# EAGLE library part LAN91C111 (library SMSC)
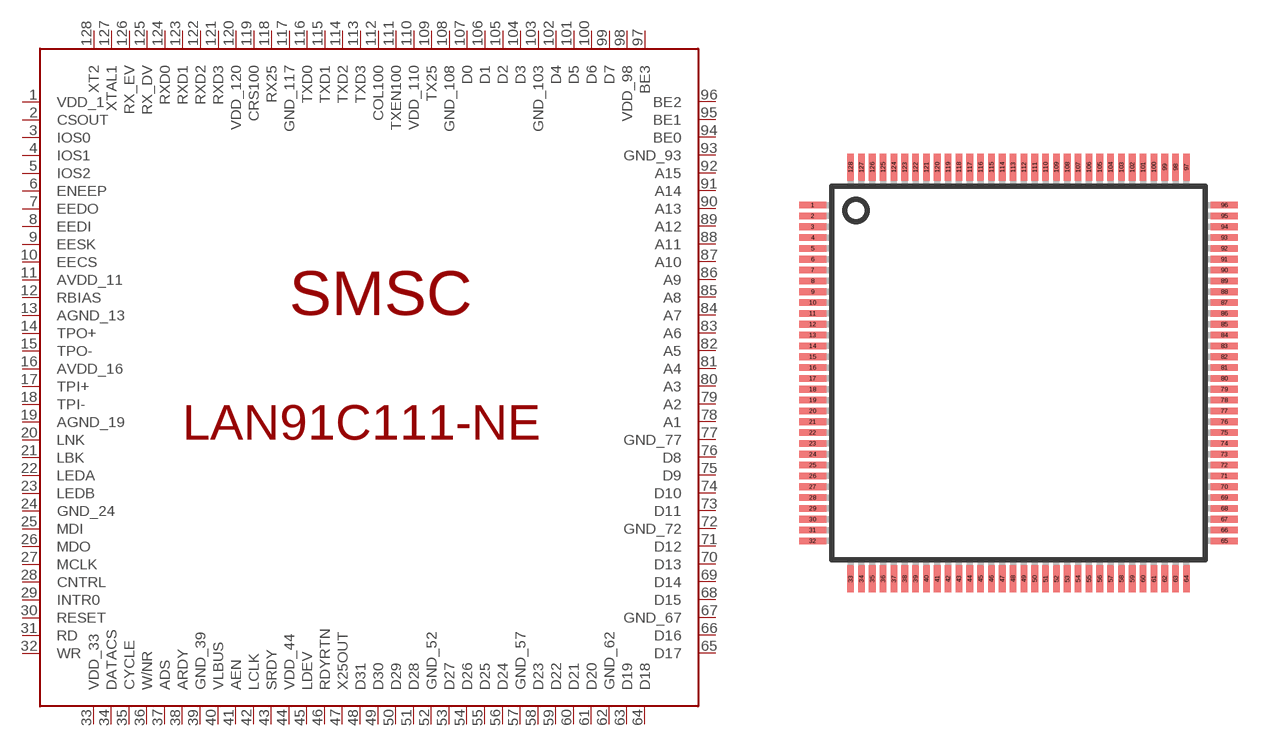
[diagram p0: symbol with the pads of TQFP128; footprint TQFP128]

Designator prefix -

## LAN91C111  [TQFP128]
1  VDD_1  pwr
2  CSOUT  out
3  IOS0  in
4  IOS1  in
5  IOS2  in
6  ENEEP  in
7  EEDO  out
8  EEDI  in
9  EESK  out
10  EECS  out
11  AVDD_11  pwr
12  RBIAS  pas
13  AGND_13  pwr
14  TPO+  pas
15  TPO-  pas
16  AVDD_16  pwr
17  TPI+  pas
18  TPI-  pas
19  AGND_19  pwr
20  LNK  in
21  LBK  out
22  LEDA  out
23  LEDB  out
24  GND_24  pwr
25  MDI  in
26  MDO  out
27  MCLK  out
28  CNTRL  in
29  INTR0  out
30  RESET  in
31  RD  in
32  WR  in
33  VDD_33  pwr
34  DATACS  in
35  CYCLE  in
36  W/NR  in
37  ADS  in
38  ARDY  out
39  GND_39  pwr
40  VLBUS  in
41  AEN  in
42  LCLK  in
43  SRDY  out
44  VDD_44  pwr
45  LDEV  out
46  RDYRTN  in
47  X25OUT  out
48  D31
49  D30
50  D29
51  D28
52  GND_52  pwr
53  D27
54  D26
55  D25
56  D24
57  GND_57  pwr
58  D23
59  D22
60  D21
61  D20
62  GND_62  pwr
63  D19
64  D18
65  D17
66  D16
67  GND_67  pwr
68  D15
69  D14
70  D13
71  D12
72  GND_72  pwr
73  D11
74  D10
75  D9
76  D8
77  GND_77  pwr
78  A1  in
79  A2  in
80  A3  in
81  A4  in
82  A5  in
83  A6  in
84  A7  in
85  A8  in
86  A9  in
87  A10  in
88  A11  in
89  A12  in
90  A13  in
91  A14  in
92  A15  in
93  GND_93  pwr
94  BE0  in
95  BE1  in
96  BE2  in
97  BE3  in
98  VDD_98  pwr
99  D7
100  D6
101  D5
102  D4
103  GND_103  pwr
104  D3
105  D2
106  D1
107  D0
108  GND_108  pwr
109  TX25  in
110  VDD_110  pwr
111  TXEN100  out
112  COL100  in
113  TXD3  out
114  TXD2  out
115  TXD1  out
116  TXD0  out
117  GND_117  pwr
118  RX25  in
119  CRS100  in
120  VDD_120  pwr
121  RXD3  in
122  RXD2  in
123  RXD1  in
124  RXD0  in
125  RX_DV  in
126  RX_EV  in
127  XTAL1  pas
128  XT2  pas

## Footprint TQFP128 (pad centres in mm)
Thin Quad Flat Package
smd 1 x 0.25: 1 -7.6,6.2; 2 -7.6,5.8; 3 -7.6,5.4; 4 -7.6,5; 5 -7.6,4.6; 6 -7.6,4.2; 7 -7.6,3.8; 8 -7.6,3.4; 9 -7.6,3; 10 -7.6,2.6; 11 -7.6,2.2; 12 -7.6,1.8; 13 -7.6,1.4; 14 -7.6,1; 15 -7.6,0.6; 16 -7.6,0.2; 17 -7.6,-0.2; 18 -7.6,-0.6; 19 -7.6,-1; 20 -7.6,-1.4; 21 -7.6,-1.8; 22 -7.6,-2.2; 23 -7.6,-2.6; 24 -7.6,-3; 25 -7.6,-3.4; 26 -7.6,-3.8; 27 -7.6,-4.2; 28 -7.6,-4.6; 29 -7.6,-5; 30 -7.6,-5.4; 31 -7.6,-5.8; 32 -7.6,-6.2; 65 7.6,-6.2; 66 7.6,-5.8; 67 7.6,-5.4; 68 7.6,-5; 69 7.6,-4.6; 70 7.6,-4.2; 71 7.6,-3.8; 72 7.6,-3.4; 73 7.6,-3; 74 7.6,-2.6; 75 7.6,-2.2; 76 7.6,-1.8; 77 7.6,-1.4; 78 7.6,-1; 79 7.6,-0.6; 80 7.6,-0.2; 81 7.6,0.2; 82 7.6,0.6; 83 7.6,1; 84 7.6,1.4; 85 7.6,1.8; 86 7.6,2.2; 87 7.6,2.6; 88 7.6,3; 89 7.6,3.4; 90 7.6,3.8; 91 7.6,4.2; 92 7.6,4.6; 93 7.6,5; 94 7.6,5.4; 95 7.6,5.8; 96 7.6,6.2
smd 0.25 x 1: 33 -6.2,-7.6; 34 -5.8,-7.6; 35 -5.4,-7.6; 36 -5,-7.6; 37 -4.6,-7.6; 38 -4.2,-7.6; 39 -3.8,-7.6; 40 -3.4,-7.6; 41 -3,-7.6; 42 -2.6,-7.6; 43 -2.2,-7.6; 44 -1.8,-7.6; 45 -1.4,-7.6; 46 -1,-7.6; 47 -0.6,-7.6; 48 -0.2,-7.6; 49 0.2,-7.6; 50 0.6,-7.6; 51 1,-7.6; 52 1.4,-7.6; 53 1.8,-7.6; 54 2.2,-7.6; 55 2.6,-7.6; 56 3,-7.6; 57 3.4,-7.6; 58 3.8,-7.6; 59 4.2,-7.6; 60 4.6,-7.6; 61 5,-7.6; 62 5.4,-7.6; 63 5.8,-7.6; 64 6.2,-7.6; 97 6.2,7.6; 98 5.8,7.6; 99 5.4,7.6; 100 5,7.6; 101 4.6,7.6; 102 4.2,7.6; 103 3.8,7.6; 104 3.4,7.6; 105 3,7.6; 106 2.6,7.6; 107 2.2,7.6; 108 1.8,7.6; 109 1.4,7.6; 110 1,7.6; 111 0.6,7.6; 112 0.2,7.6; 113 -0.2,7.6; 114 -0.6,7.6; 115 -1,7.6; 116 -1.4,7.6; 117 -1.8,7.6; 118 -2.2,7.6; 119 -2.6,7.6; 120 -3,7.6; 121 -3.4,7.6; 122 -3.8,7.6; 123 -4.2,7.6; 124 -4.6,7.6; 125 -5,7.6; 126 -5.4,7.6; 127 -5.8,7.6; 128 -6.2,7.6